# Altium schematic symbol library kutuphane_sematik.SchLib: 6 symbols
Pins are listed as number, name and electrical type; pins without a type are passive.

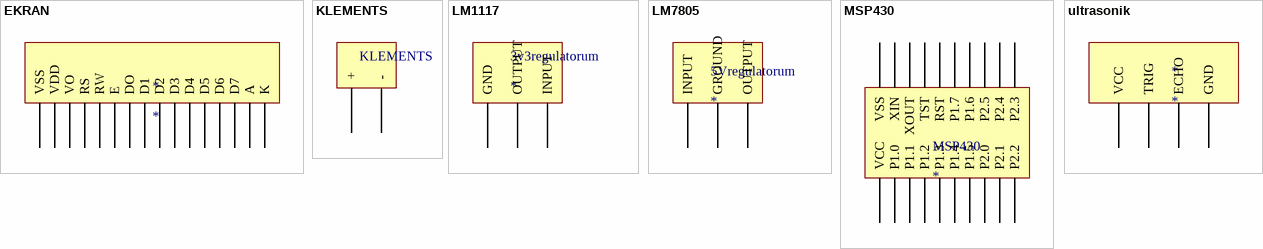
[diagram p0: symbols EKRAN to ultrasonik]

## EKRAN
designator *
footprint EKRAN - duplicate
pins: 1 VSS, 2 VDD, 3 VO, 4 RS, 5 RW, 6 E, 7 DO, 8 D1, 9 D2, 10 D3, 11 D4, 12 D5, 13 D6, 14 D7, 15 A, 16 K

## KLEMENTS
designator KLEMENTS  (value not drawn)
footprint klements
pins: 1 +, 2 -

## LM1117
designator 3v3regulatorum
footprint 3v3regulatorum_
pins: 0 GND, 1 OUTPUT, 2 INPUT

## LM7805
designator 5Vregulatorum
footprint 5vregulatorum_
pins: 1 INPUT, 2 GROUND, 3 OUTPUT

## MSP430
designator MSP430
footprint msp430
pins: 1 VCC, 2 P1.0, 3 P1.1, 4 P1.2, 5 P1.3, 6 P1.4, 7 P1.5, 8 P2.0, 9 P2.1, 10 P2.2, 11 P2.3, 12 P2.4, 13 P2.5, 14 P1.6, 15 P1.7, 16 RST, 17 TST, 18 XOUT, 19 XIN, 20 VSS

## ultrasonik
designator *
footprint ultrasonik
pins: 1 VCC, 2 TRIG, 3 ECHO, 4 GND